# Altium schematic symbol library PICOCORE-S3.SchLib: 6 symbols
Pins are listed as number, name and electrical type; pins without a type are passive.

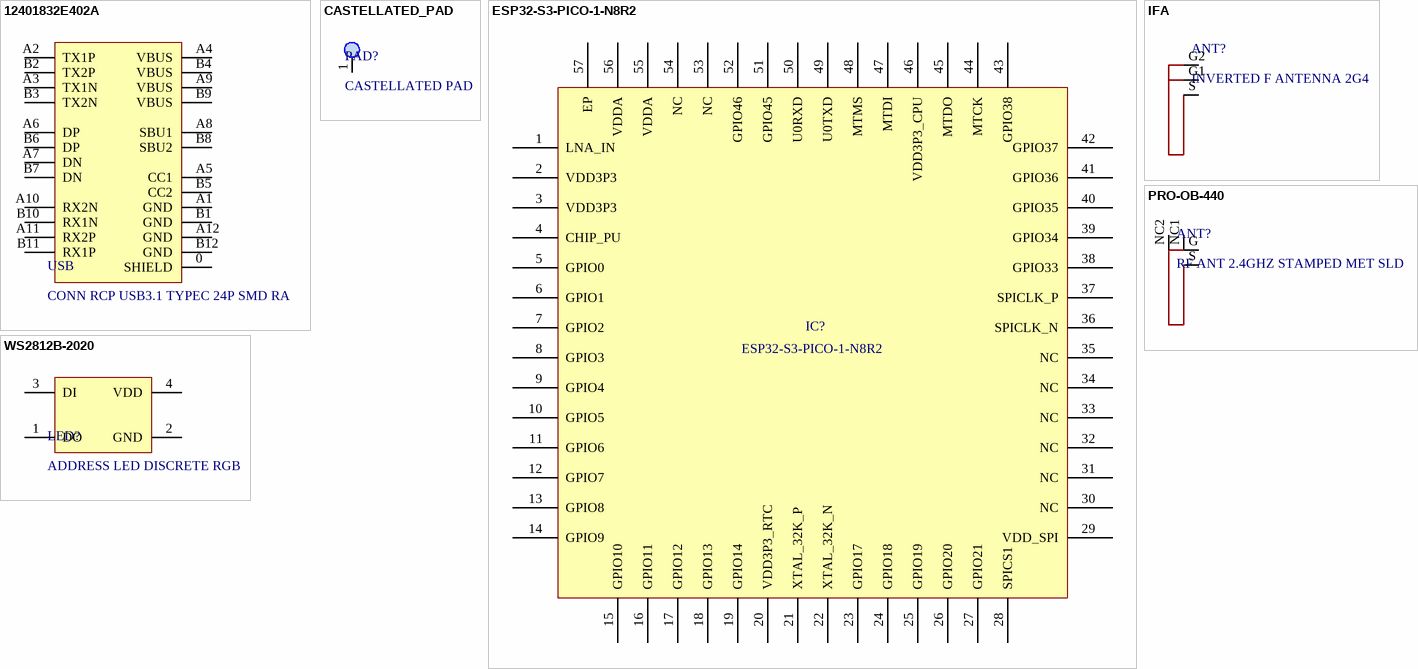
[diagram p0: symbols 12401832E402A to WS2812B-2020]

## 12401832E402A
designator USB, comment CONN RCP USB3.1 TYPEC 24P SMD RA
USB-C (USB TYPE-C) USB 3.2 Gen 2 (USB 3.1 Gen 2, Superspeed + (USB 3.1)) Receptacle Connector 24 Position Surface Mount, Right Angle; Through Hole; Primary Manufacturer: Amphenol; Primary Manufacturer Part Number: 12401832E402A; Temp Min C: -40; Temp Max C: +85
footprint 12401832E402A (CONN RCP USB3.1 TYPEC 24P SMD RA)
pins: 0 SHIELD, A1 GND, A2 TX1P, A3 TX1N, A4 VBUS, A5 CC1, A6 DP, A7 DN, A8 SBU1, A9 VBUS, A10 RX2N, A11 RX2P, A12 GND, B1 GND, B2 TX2P, B3 TX2N, B4 VBUS, B5 CC2, B6 DP, B7 DN, B8 SBU2, B9 VBUS, B10 RX1N, B11 RX1P, B12 GND

## CASTELLATED_PAD
designator PAD?, comment CASTELLATED PAD
footprint CASTELLATED PAD
pins: 1

## ESP32-S3-PICO-1-N8R2
designator IC?, comment Primary Manufacturer Part Number: ESP32-S3-PICO-1-N8R2  (hidden comment: RF TXRX MOD BLUETOOTH WIFISMD)
Bluetooth, WiFi 802.11b/g/n, Bluetooth v5.0 Transceiver Module 2.4GHz Antenna Not Included Surface Mount; Primary Manufacturer: Espressif Systems; Part Height in mm: 1.06; Electrical Value: 3.0V~3.6V; Temperature Min C: -40; Temperature Max C: +85; ComponentLink1Description: Datasheet; ComponentLink1URL: https://www.espressif.com/sites/default/files/documentation/esp32-s3-pico-1_datasheet_en.pdf
footprint LGA56
pins: 1 LNA_IN, 2 VDD3P3, 3 VDD3P3, 4 CHIP_PU, 5 GPIO0, 6 GPIO1, 7 GPIO2, 8 GPIO3, 9 GPIO4, 10 GPIO5, 11 GPIO6, 12 GPIO7, 13 GPIO8, 14 GPIO9, 15 GPIO10, 16 GPIO11, 17 GPIO12, 18 GPIO13, 19 GPIO14, 20 VDD3P3_RTC, 21 XTAL_32K_P, 22 XTAL_32K_N, 23 GPIO17, 24 GPIO18, 25 GPIO19, 26 GPIO20, 27 GPIO21, 28 SPICS1, 29 VDD_SPI, 30 NC, 31 NC, 32 NC, 33 NC, 34 NC, 35 NC, 36 SPICLK_N, 37 SPICLK_P, 38 GPIO33, 39 GPIO34, 40 GPIO35, 41 GPIO36, 42 GPIO37, 43 GPIO38, 44 MTCK, 45 MTDO, 46 VDD3P3_CPU, 47 MTDI, 48 MTMS, 49 U0TXD, 50 U0RXD, 51 GPIO45, 52 GPIO46, 53 NC, 54 NC, 55 VDDA, 56 VDDA, 57 EP

## IFA
designator ANT?, comment INVERTED F ANTENNA 2G4
footprint IFA
pins: G1, G2, S

## PRO-OB-440
designator ANT?, comment RF ANT 2.4GHZ STAMPED MET SLD
RF ANTENNA Bluetooth, WirelessHART, WLAN, Zigbee™ Stamped Metal Solder Surface Mount; Primary Manufacturer: Abracon; Primary Manufacturer Part Number: PRO-OB-440; Electrical Value: 2.4 GHz
footprint PRO-OB-440
pins: G, NC1, NC2, S

## WS2812B-2020
designator LED?, comment ADDRESS LED DISCRETE RGB
Addressable Lighting Neopixel 10 LED Discrete Red, Green, Blue (RGB) 2.00mm L x 2.00mm W
footprint WS2812B-2020
pins: 1 DO, 2 GND, 3 DI, 4 VDD